# EAGLE library part 6861XX14422_68610414422 (library 68611414422)
WR-FPC 1.00 mm SMT ZIF Horizontal Bottom Contact KIND PROPERTIES Pitch 1 mm MATERIAL PROPERTIES Insulator Material PPS Contact Material Phosphor Bronze Contact Plating 100 (µ") Tin over 50 (µ") Nickel Contact Type Stamped <https://www.we-online.com/catalog/media/o33099v209%20Family_WR-FPC_68611214422.jpg> Details see: https://www.we-online.com/catalog/en/FPC_1_00_SMT_ZIF_HORIZONTAL_BOTTOM_CONTACT_6861XX14422/ Updated by Ella Wu 2021-07-19 2021(C) Wurth Elektronik
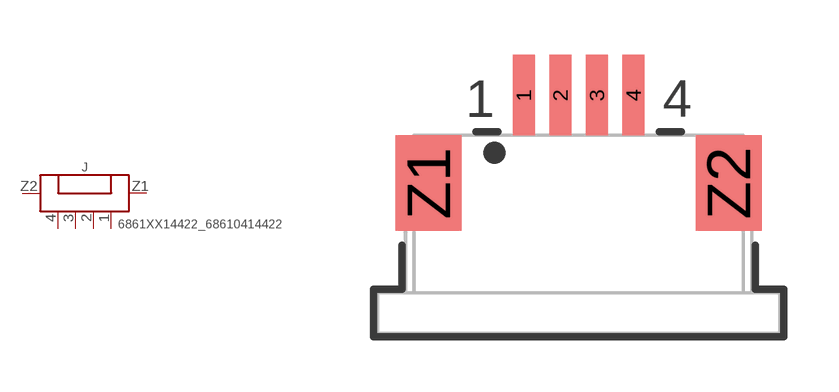
[diagram p101: symbol with the pads of 68610414422; footprint 68610414422]

Designator prefix J

## 6861XX14422_68610414422 (CONTACT-RESISTANCE: 20mOhm; DATASHEET-URL: https://www.we-online.com/catalog/datasheet/68610414422.pdf; IR: 1A; L: 11mm; MATE-WITH: WR-FFC 1.00 mm Flat Flexible Cable Type 1 (Contacts on same side)/ Type 2 (Contacts opposite); PACKAGING: Tape and Reel; PART-NUMBER: 68610414422; PINS: 4; PITCH: 1mm; TYPE: Horizontal; VALUE: 68610414422; WORKING-VOLTAGE: 125V(AC))  [68610414422]
1  1  pas
2  2  pas
3  3  pas
4  4  pas
Z1  Z1  pas
Z2  Z2  pas

## Footprint 68610414422 (pad centres in mm)
WR-FPC 1.00 mm SMT ZIF Horizontal Bottom Contact, 4 Pins
smd 0.6 x 2.2: 1 -1.5,3.8; 2 -0.5,3.8; 3 0.5,3.8; 4 1.5,3.8
smd 1.8 x 2.6: Z1 -4.1,1.4; Z2 4.1,1.4